# EAGLE library part MSGEQ (library MTW)
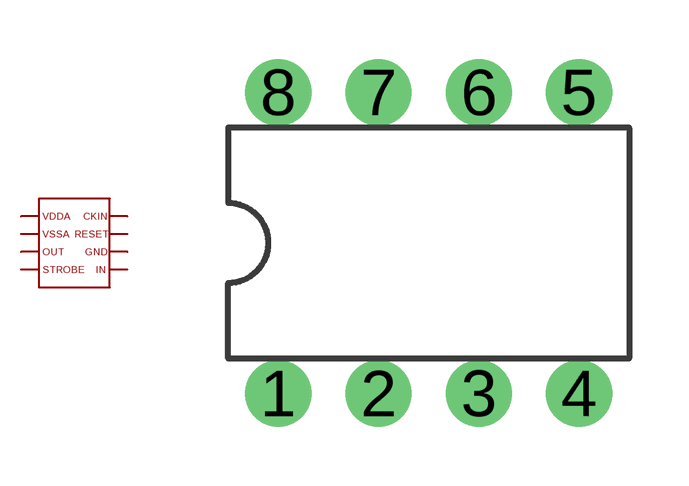
[diagram p0: symbol with the pads of DIL08-ROUND; footprint DIL08-ROUND]

Designator prefix -

## MSGEQ  [DIL08-ROUND]
1  VDDA
2  VSSA
3  OUT
4  STROBE
5  IN
6  GND
7  RESET
8  CKIN

## Footprint DIL08-ROUND (pad centres in mm)
Dual In Line Package
drill 0.813 pad 1.676: 1 -3.81,-3.81; 2 -1.27,-3.81; 3 1.27,-3.81; 4 3.81,-3.81; 5 3.81,3.81; 6 1.27,3.81; 7 -1.27,3.81; 8 -3.81,3.81